# EAGLE library part PIN_1X19 (library devkit)
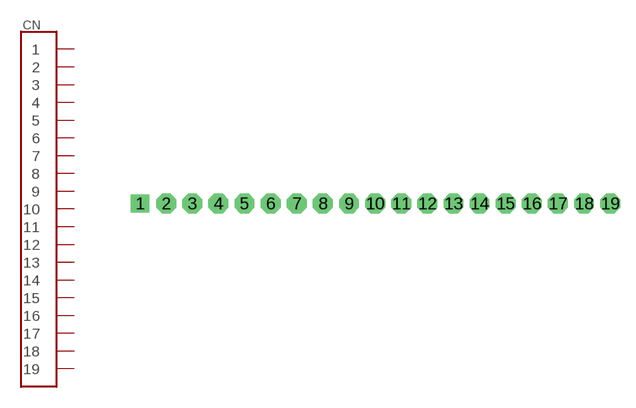
[diagram p4: symbol with the pads of PIN_1X19; footprint PIN_1X19]

Designator prefix CN

## PIN_1X19  [PIN_1X19]
1  1
2  2
3  3
4  4
5  5
6  6
7  7
8  8
9  9
10  10
11  11
12  12
13  13
14  14
15  15
16  16
17  17
18  18
19  19

## Footprint PIN_1X19 (pad centres in mm)
drill 1.1 pad 1.778 square: 1 -22.86,0
drill 1.1 pad 1.93 octagon: 2 -20.32,0; 3 -17.78,0; 4 -15.24,0; 5 -12.7,0; 6 -10.16,0; 7 -7.62,0; 8 -5.08,0; 9 -2.54,0; 10 0,0; 11 2.54,0; 12 5.08,0; 13 7.62,0; 14 10.16,0; 15 12.7,0; 16 15.24,0; 17 17.78,0; 18 20.32,0; 19 22.86,0